# Altium integrated library Resistors.IntLib: 2 symbols
Pins are listed as number, name and electrical type; pins without a type are passive.

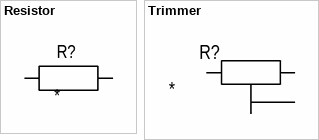
[diagram p0: symbols Resistor to Trimmer]

## Resistor
designator R?
Name: Резистор; Model: *; Manufacture: *; HelpURL: *; Case: *; Value: *; Power: *; Tolerance: *
footprint R0402
footprint R0603
footprint R1210
footprint R2010
footprint R0805
footprint R1206
footprint R2512
pins: 1 "Вход", 2 "Вход"

## Trimmer
designator R?
Name: Резистор подстроечный; Case: *; HelpURL: *; Manufacture: *; Value: *; Model: *; Tolerance: *; Power: *
footprint 3296P
footprint 3296W
footprint 3296Y
footprint 3296Z
pins: 1 "Вход", 2, 3 "Вход"